# Altium schematic symbol library RCLAMP1654P.TCT.SchLib: 1 symbol
Pins are listed as number, name and electrical type; pins without a type are passive.

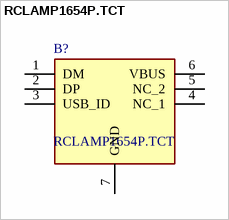
[diagram p0: symbol RCLAMP1654P.TCT]

## RCLAMP1654P.TCT
designator B?
Semtech RCLAMP1654P.TCT Triple Uni-Directional TVS Diode Array, 200W peak, 6-Pin SLP EP; Geometry.Height: 0.65mm; Mouser Part Number: 947-RCLAMP1654P.TCT; Mouser Price/Stock: https://www.mouser.co.uk/ProductDetail/Semtech/RCLAMP1654P.TCT?qs=rBWM4%252BvDhIfGmhnOIHwLRQ%3D%3D; Manufacturer_Name: SEMTECH; Manufacturer_Part_Number: RCLAMP1654P.TCT; Datasheet Link: https://www.arrow.com/en/products/rclamp1654p.tct/semtech
footprint SON50P160X160X65-7N
pins: 1 DM, 2 DP, 3 USB_ID, 4 NC_1, 5 NC_2, 6 VBUS, 7 GND